# Altium footprint library MY DB LIBRARY.PcbLib: 20 footprints (part 1 of 2)
Each footprint in its own frame and in the unit in brackets; x right, y up, seen from the top. Pads: shape width x height; smd on the part's side, far side on the other; paste and mask are expansions set on the pad; w line width, h text height; cw(c..) or ccw(c..) is an arc to the next point about the centre after c.
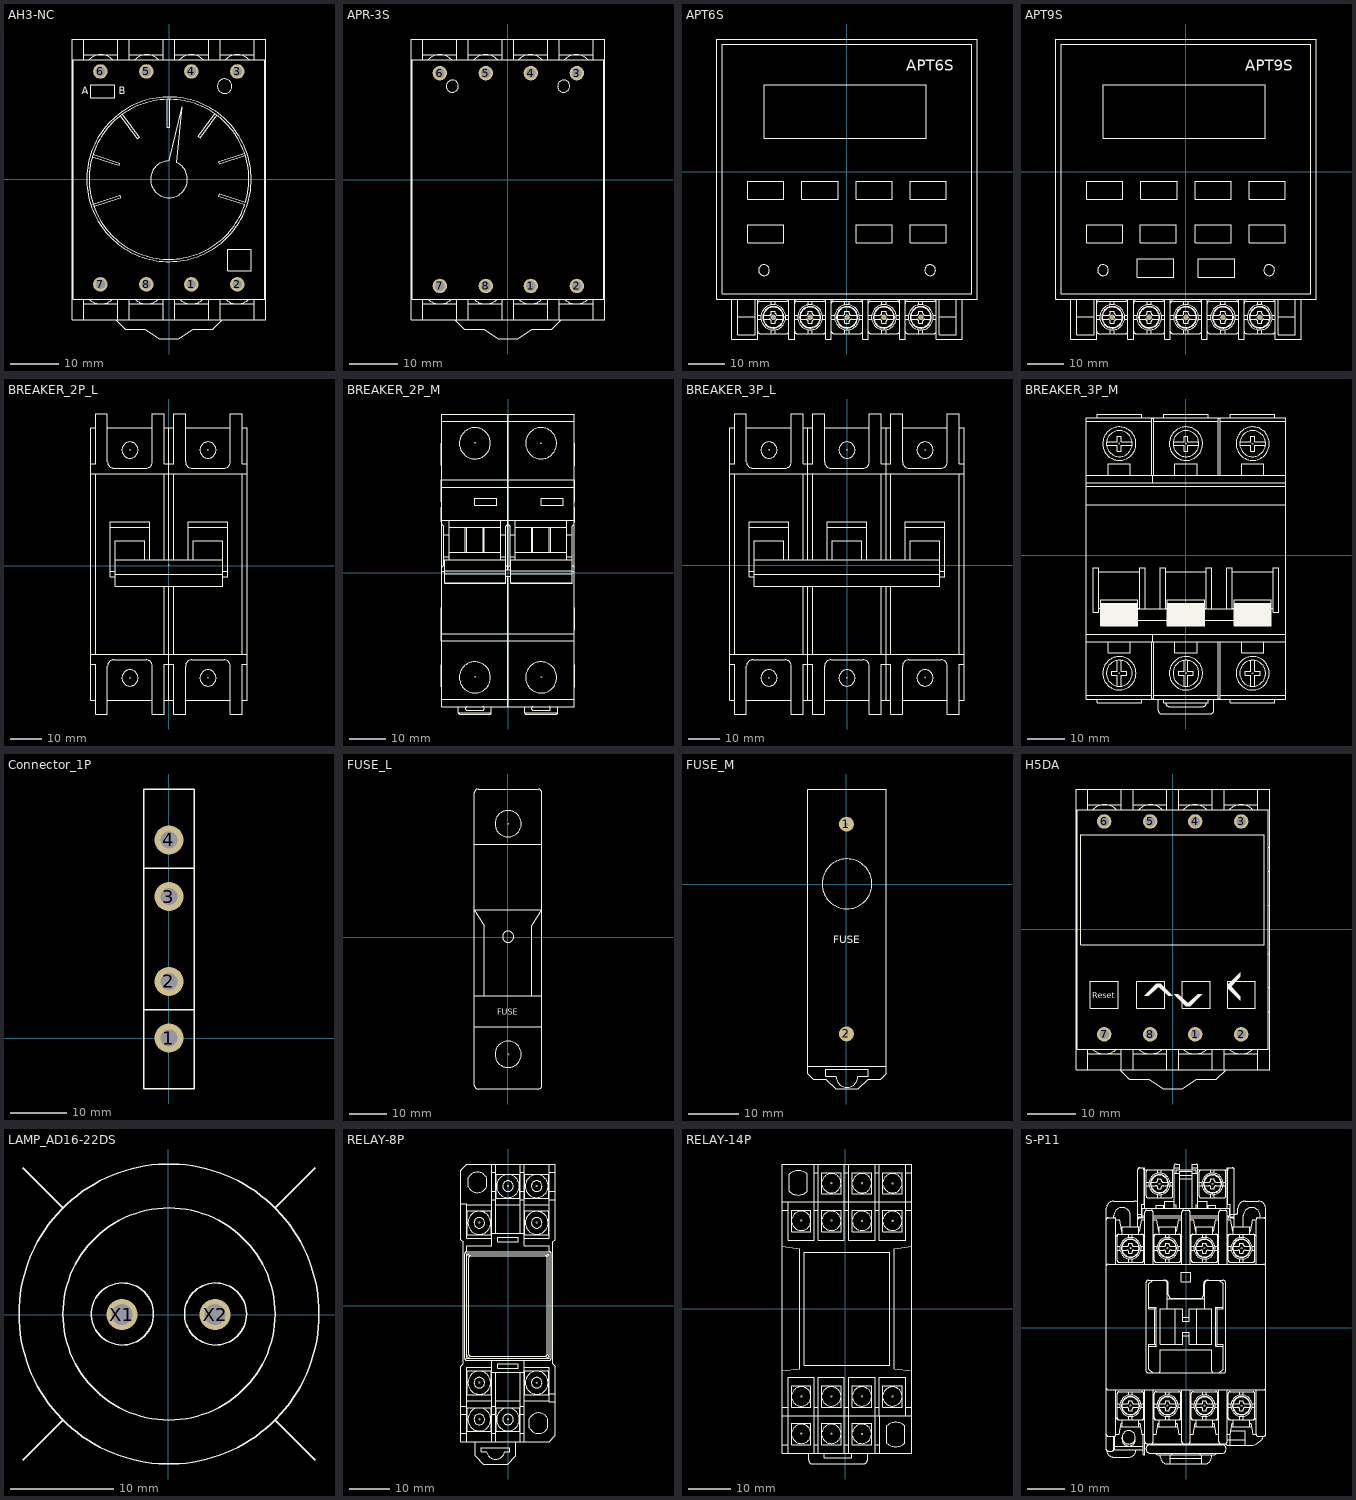
[diagram p0: the footprints below, top view; thin cyan lines are the x and y axes]

## AH3-NC [mm]
height 87
pads (8):
  round 3 hole 2: 1(4.627,-21.742) 2(14.127,-21.742) 3(14.127,22.258) 4(4.627,22.258) 5(-4.673,22.258) 6(-14.173,22.258) 7(-14.173,-21.742) 8(-4.673,-21.742)
Top Overlay:
  circle w0.127: c11.5,19.217 r1.5
  circle w0.127: c0,-0.033 r17
  lines w0.127: -20,-17.033 -19.75,-17.033 ; -20,-12.033 -19.75,-12.033 ; -20,-5.033 -19.75,-5.033 ; -20,4.967 -19.75,4.967 ; -20,11.967 -19.75,11.967 ; -20,16.967 -19.75,16.967 ; -17.6,-29.033 -17.6,-24.783 ; -17.6,-25.783 -10.6,-25.783 ; -17.6,24.717 -17.6,28.967 ; -17.6,25.717 -10.6,25.717 ; -16.549,-24.783 ccw(c-14.1,-22.283) -11.651,-24.783 ; -16.549,24.717 cw(c-14.1,22.217) -11.651,24.717 ; -15.845,4.638 -10.299,2.836 -10.144,3.311 -15.696,5.115 ; -15.71,-5.137 -10.19,-3.343 -10.035,-3.819 -15.549,-5.61 ; -11,-29.033 -9,-31.033 -5,-31.033 -2,-33.033 2,-33.033 5,-31.033 9,-31.033 11,-29.033 ; -10.6,-29.033 -10.6,-24.783 ; -10.6,24.717 -10.6,28.967 ; -10.029,13.093 -6.6,8.374 -6.196,8.668 -9.627,13.391 ; -8.2,-29.033 -8.2,-24.783 ; -8.2,-25.783 -1.2,-25.783 ; -8.2,24.717 -8.2,28.967 ; -8.2,25.717 -1.2,25.717 ; -7.049,-24.783 ccw(c-4.6,-22.283) -2.151,-24.783 ; -7.049,24.717 cw(c-4.6,22.217) -2.151,24.717 ; -1.2,-29.033 -1.2,-24.783 ; -1.2,24.717 -1.2,28.967 ; -0.353,16.482 -0.353,10.681 0.147,10.681 0.147,16.485 ; 1.2,-29.033 1.2,-24.783 ; 1.2,-25.783 8.2,-25.783 ; 1.2,24.717 1.2,28.967 ; 1.2,25.717 8.2,25.717 ; 2.151,-24.783 ccw(c4.6,-22.283) 7.049,-24.783 ; 2.151,24.717 cw(c4.6,22.217) 7.049,24.717 ; 8.2,-29.033 8.2,-24.783 ; 8.2,24.717 8.2,28.967 ; 9.436,13.526 6.058,8.876 6.462,8.582 9.842,13.234 ; 10.6,-29.033 10.6,-24.783 ; 10.6,-25.783 17.6,-25.783 ; 10.6,24.717 10.6,28.967 ; 10.6,25.717 17.6,25.717 ; 11.651,-24.783 ccw(c14.1,-22.283) 16.549,-24.783 ; 11.651,24.717 cw(c14.1,22.217) 16.549,24.717 ; 15.598,5.406 10.182,3.647 10.337,3.171 15.755,4.932 ; 17.6,-29.033 17.6,-24.783 ; 17.6,24.717 17.6,28.967 ; 19.75,-17.033 20,-17.033 ; 19.75,-12.033 20,-12.033 ; 19.75,-5.033 20,-5.033 ; 19.75,4.967 20,4.967 ; 19.75,11.967 20,11.967 ; 19.75,16.967 20,16.967 ; -20,-29.033 -20,28.967 20,28.967 20,-29.033 -20,-29.033 ; -19.75,-24.783 -19.75,24.717 19.75,24.717 19.75,-24.783 -19.75,-24.783 ; -16.16,16.815 -11.176,16.815 -11.176,19.495 -16.16,19.495 -16.16,16.815 ; 0,3.767 ccw(c0,-0.033) 1.622,3.404 2.768,14.968 0,3.767 ; 10.291,-3.483 10.446,-3.008 15.829,-4.757 ccw(c0,-0.033) 15.679,-5.234 10.291,-3.483 ; 12.19,-18.952 16.99,-18.952 16.99,-14.452 12.19,-14.452 12.19,-18.952
  text "A" at -18.059,17.501 h1.52
  text "B" at -10.363,17.501 h1.52

## APR-3S [mm]
height 78
pads (8):
  round 3 hole 2: 1(4.8,-22) 2(14.3,-22) 3(14.3,22) 4(4.8,22) 5(-4.5,22) 6(-14,22) 7(-14,-22) 8(-4.5,-22)
Top Overlay:
  circle w0.127: c11.576,19.294 r1.25
  circle w0.127: c-11.424,19.294 r1.25
  lines w0.127: -19.924,-16.956 -19.674,-16.956 ; -19.924,-11.956 -19.674,-11.956 ; -19.924,-4.956 -19.674,-4.956 ; -19.924,5.044 -19.674,5.044 ; -19.924,12.044 -19.674,12.044 ; -19.924,17.044 -19.674,17.044 ; -17.524,-28.956 -17.524,-24.706 ; -17.524,-25.706 -10.524,-25.706 ; -17.524,24.794 -17.524,29.044 ; -17.524,25.794 -10.524,25.794 ; -16.473,-24.706 ccw(c-14.024,-22.206) -11.574,-24.706 ; -16.473,24.794 cw(c-14.024,22.294) -11.574,24.794 ; -10.924,-28.956 -8.924,-30.956 -4.924,-30.956 -1.924,-32.956 2.076,-32.956 5.076,-30.956 9.076,-30.956 11.076,-28.956 ; -10.524,-28.956 -10.524,-24.706 ; -10.524,24.794 -10.524,29.044 ; -8.124,-28.956 -8.124,-24.706 ; -8.124,-25.706 -1.124,-25.706 ; -8.124,24.794 -8.124,29.044 ; -8.124,25.794 -1.124,25.794 ; -6.973,-24.706 ccw(c-4.524,-22.206) -2.074,-24.706 ; -6.973,24.794 cw(c-4.524,22.294) -2.074,24.794 ; -1.124,-28.956 -1.124,-24.706 ; -1.124,24.794 -1.124,29.044 ; 1.276,-28.956 1.276,-24.706 ; 1.276,-25.706 8.276,-25.706 ; 1.276,24.794 1.276,29.044 ; 1.276,25.794 8.276,25.794 ; 2.227,-24.706 ccw(c4.676,-22.206) 7.126,-24.706 ; 2.227,24.794 cw(c4.676,22.294) 7.126,24.794 ; 8.276,-28.956 8.276,-24.706 ; 8.276,24.794 8.276,29.044 ; 10.676,-28.956 10.676,-24.706 ; 10.676,-25.706 17.676,-25.706 ; 10.676,24.794 10.676,29.044 ; 10.676,25.794 17.676,25.794 ; 11.727,-24.706 ccw(c14.176,-22.206) 16.626,-24.706 ; 11.727,24.794 cw(c14.176,22.294) 16.626,24.794 ; 17.676,-28.956 17.676,-24.706 ; 17.676,24.794 17.676,29.044 ; 19.826,-16.956 20.076,-16.956 ; 19.826,-11.956 20.076,-11.956 ; 19.826,-4.956 20.076,-4.956 ; 19.826,5.044 20.076,5.044 ; 19.826,12.044 20.076,12.044 ; 19.826,17.044 20.076,17.044 ; -19.924,-28.956 -19.924,29.044 20.076,29.044 20.076,-28.956 -19.924,-28.956 ; -19.674,-24.706 -19.674,24.794 19.826,24.794 19.826,-24.706 -19.674,-24.706

## APT6S [mil]
height 2165.35
pads (5):
  round 60 hole 30: 0(-799.21,-1586.61) 1(-397.64,-1586.61) 2(4,-1586.61) L(406,-1586.61) N(808,-1586.61)
Top Overlay:
  drawing of 246 lines, arcs and shapes, not listed
  text "APT6S" at 650,1099 h118.11

## APT9S [mil]
height 2165.35
pads (5):
  round 60 hole 30: 0(-799.21,-1586.61) 1(-397.64,-1586.61) 2(4,-1586.61) L(406,-1586.61) N(808,-1586.61)
Top Overlay:
  drawing of 258 lines, arcs and shapes, not listed
  text "APT9S" at 650,1099 h118.11

## BREAKER_2P_L [mm]
height 75
pads (4):
  round 0.5 hole 0.3: 1(-12.344,36.678) 2(-12.344,-35.535) 3(12.344,36.652) 4(12.37,-35.433)
Top Overlay:
  circle w0.064: c-0.025,0.238 r0.032
  circle w0.127: c-12.327,-35.525 r2.57
  circle w0.127: c12.387,-35.525 r2.57
  circle w0.127: c-12.327,36.621 r2.57
  circle w0.127: c12.387,36.621 r2.57
  lines w0.127: -24.684,-41.614 -24.684,0.548 ; -24.684,-31.252 -23.201,-31.252 -23.201,-46.952 -19.447,-46.952 -19.447,-31.778 cw(c-17.47,-31.778) -17.47,-29.8 -7.226,-29.8 cw(c-7.226,-31.778) -5.249,-31.778 -5.249,-46.952 -1.453,-46.952 -1.453,-31.252 1.513,-31.252 1.513,-46.952 5.267,-46.952 5.267,-31.778 cw(c7.244,-31.778) 7.244,-29.8 17.488,-29.8 cw(c17.488,-31.778) 19.465,-31.778 19.465,-46.952 23.261,-46.952 23.261,-31.252 24.744,-31.252 ; -24.684,-27.952 24.744,-27.952 ; -24.684,29.048 24.744,29.048 ; -24.684,32.348 -23.201,32.348 -23.201,48.048 -19.565,48.048 ; -23.201,-42.602 -24.684,-42.602 ; -23.201,-27.952 -23.201,0.548 -23.201,29.048 ; -23.201,43.699 -24.684,43.699 -24.684,0.548 ; -19.447,-42.602 -18.705,-42.602 -5.991,-42.602 -5.249,-42.602 ; -19.447,43.699 -18.705,43.699 -5.991,43.699 -5.249,43.699 ; -19.447,48.048 -19.447,32.874 ccw(c-17.47,32.874) -17.47,30.897 -7.226,30.897 ccw(c-7.226,32.874) -5.249,32.874 -5.249,48.048 -1.453,48.048 -1.453,32.348 1.513,32.348 1.513,48.048 5.149,48.048 ; -18.604,-1.775 -17.022,-1.775 ; -18.604,12.164 -6.05,12.164 ; -17.022,-3.505 -18.604,-3.505 -18.604,13.894 -6.05,13.894 -6.05,1.932 ; -17.022,-2.659 17.083,-2.659 ; -17.022,1.932 7.691,1.932 ; -7.631,1.932 -7.631,7.863 -17.022,7.863 -17.022,-6.471 7.691,-6.471 17.083,-6.471 17.083,7.863 7.691,7.863 7.691,1.932 ; -1.453,-27.952 -1.453,-6.471 ; -1.453,1.932 -1.453,29.048 ; -1.384,-42.602 0.03,-42.602 ; -1.384,43.699 0.03,43.699 ; 0.03,42.71 0.03,1.932 ; 1.513,-42.602 0.03,-42.602 ; 1.513,-27.952 1.513,-6.471 ; 1.513,1.932 1.513,29.048 ; 1.513,43.699 0.03,43.699 ; 5.267,-42.602 6.009,-42.602 18.723,-42.602 19.465,-42.602 ; 5.267,43.699 6.009,43.699 18.723,43.699 19.465,43.699 ; 5.267,48.048 5.267,32.874 ccw(c7.244,32.874) 7.244,30.897 17.488,30.897 ccw(c17.488,32.874) 19.465,32.874 19.465,48.048 23.261,48.048 23.261,32.348 24.744,32.348 ; 6.11,1.932 6.11,13.894 18.664,13.894 18.664,-3.505 17.083,-3.505 ; 6.11,12.164 18.664,12.164 ; 17.083,-1.775 18.664,-1.775 ; 17.083,1.932 7.691,1.932 ; 23.261,-27.952 23.261,0.548 23.261,29.048 ; 23.329,-42.602 24.744,-42.602 24.744,0.548 ; 23.329,43.699 24.744,43.699 24.744,0.548 ; 24.744,-41.614 24.744,0.548 ; 24.744,42.71 24.744,0.548 ; -24.684,-42.602 -24.684,0.548 ; -24.684,-42.602 -24.684,0.548 ; -24.684,0.548 -24.684,42.71 -24.684,0.548 ; 0.03,-42.602 0.03,-6.471 ; 0.03,-6.471 0.03,-41.614 0.03,-6.471 ; 0.03,1.932 0.03,43.699 ; 0.03,1.932 0.03,43.699

## BREAKER_2P_M [mm]
height 75
pads (4):
  round 0.5 hole 0.3: 1(-9.068,35.611) 2(-9.042,-28.346) 3(8.915,35.433) 4(9.042,-28.524)
Top Overlay:
  drawing of 151 lines, arcs and shapes, not listed

## BREAKER_3P_L [mm]
height 75
pads (6):
  round 0.5 hole 0.3: 1(-24.714,36.627) 2(-24.74,-35.636) 3(-0.025,36.601) 4(-0.025,-35.585) 5(24.74,36.551) 6(24.714,-35.484)
Top Overlay:
  drawing of 164 lines, arcs and shapes, not listed

## BREAKER_3P_M [mm]
height 75
pads (6):
  round 0.5 hole 0.3: 1(-17.907,30.099) 2(-17.907,-31.902) 3(0.102,30.124) 4(0.102,-31.928) 5(18.085,30.074) 6(18.085,-31.928)
Top Overlay:
  drawing of 361 lines, arcs and shapes, not listed

## Connector_1P [mm] "Tterminal block connector"
height 46
pads (4):
  round 5.1 hole 3: 1(0,0) 2(0,10) 3(0,25) 4(0,35)
Top Overlay:
  lines w0.254: -4.5,5 4.5,5 ; -4.5,30 4.5,30 ; -4.5,-9 4.5,-9 4.5,44 -4.5,44 -4.5,-9

## FUSE_L [mm]
height 62
pads (2):
  round 0.5 hole 0.3: 1(0.127,30.201) 2(0.152,-31.267)
Top Overlay:
  circle w0.127: c0.102,0.095 r1.5
  circle w0.127: c0.102,-31.267 r3.5
  circle w0.127: c0.102,30.233 r3.5
  lines w0.127: -8.973,24.812 9.075,24.812 ; -8.89,-23.973 9.075,-23.973 ; -8.89,-15.683 9.075,-15.683 ; -6.254,-15.683 -6.254,3.058 -8.973,7.289 9.075,7.289 6.364,3.058 6.364,-15.683 ; -8.898,-39.517 ccw(c-7.898,-39.517) -7.898,-40.517 8.102,-40.517 ccw(c8.102,-39.517) 9.102,-39.517 9.102,38.483 ccw(c8.102,38.483) 8.102,39.483 -7.898,39.483 ccw(c-7.898,38.483) -8.898,38.483 -8.898,-39.517
  text "FUSE" at -2.743,-20.726 h1.52

## FUSE_M [mm]
height 43.5
pads (2):
  round 3 hole 0.762: 1(0,12) 2(0,-30)
Top Overlay:
  circle w0.127: c0.103,0.051 r5
  lines w0.127: -7.747,-36.449 7.953,-36.449 ; -7.747,-36.449 -7.747,19.051 7.953,19.051 7.953,-36.449 ; -7.747,-36.449 -7.747,-37.949 -6.647,-39.049 -4.147,-39.049 -2.147,-41.049 2.353,-41.049 4.353,-39.049 6.853,-39.049 7.953,-37.949 7.953,-36.449 ; -4.147,-38.486 -2.102,-38.486 ccw(c0.103,-38.486) 2.308,-38.486 4.353,-38.486 4.353,-37.109 -4.147,-37.109 -4.147,-38.486
  text "FUSE" at -2.642,-11.862 h1.52

## H5DA [mm] "Counter/Timer"
height 91
pads (8):
  round 3 hole 2: 1(4.627,-21.742) 2(14.127,-21.742) 3(14.127,22.258) 4(4.627,22.258) 5(-4.673,22.258) 6(-14.173,22.258) 7(-14.173,-21.742) 8(-4.673,-21.742)
Top Overlay:
  lines w0.127: -20,-17.033 -19.75,-17.033 ; -20,-12.033 -19.75,-12.033 ; -20,-5.033 -19.75,-5.033 ; -20,4.967 -19.75,4.967 ; -20,11.967 -19.75,11.967 ; -20,16.967 -19.75,16.967 ; -17.6,-29.033 -17.6,-24.783 ; -17.6,-25.783 -10.6,-25.783 ; -17.6,24.717 -17.6,28.967 ; -17.6,25.717 -10.6,25.717 ; -16.549,-24.783 ccw(c-14.1,-22.283) -11.651,-24.783 ; -16.549,24.717 cw(c-14.1,22.217) -11.651,24.717 ; -11,-29.033 -9,-31.033 -5,-31.033 -2,-33.033 2,-33.033 5,-31.033 9,-31.033 11,-29.033 ; -10.6,-29.033 -10.6,-24.783 ; -10.6,24.717 -10.6,28.967 ; -8.2,-29.033 -8.2,-24.783 ; -8.2,-25.783 -1.2,-25.783 ; -8.2,24.717 -8.2,28.967 ; -8.2,25.717 -1.2,25.717 ; -7.049,-24.783 ccw(c-4.6,-22.283) -2.151,-24.783 ; -7.049,24.717 cw(c-4.6,22.217) -2.151,24.717 ; -1.2,-29.033 -1.2,-24.783 ; -1.2,24.717 -1.2,28.967 ; 1.2,-29.033 1.2,-24.783 ; 1.2,-25.783 8.2,-25.783 ; 1.2,24.717 1.2,28.967 ; 1.2,25.717 8.2,25.717 ; 2.151,-24.783 ccw(c4.6,-22.283) 7.049,-24.783 ; 2.151,24.717 cw(c4.6,22.217) 7.049,24.717 ; 8.2,-29.033 8.2,-24.783 ; 8.2,24.717 8.2,28.967 ; 10.6,-29.033 10.6,-24.783 ; 10.6,-25.783 17.6,-25.783 ; 10.6,24.717 10.6,28.967 ; 10.6,25.717 17.6,25.717 ; 11.651,-24.783 ccw(c14.1,-22.283) 16.549,-24.783 ; 11.651,24.717 cw(c14.1,22.217) 16.549,24.717 ; 17.6,-29.033 17.6,-24.783 ; 17.6,24.717 17.6,28.967 ; 19.75,-17.033 20,-17.033 ; 19.75,-12.033 20,-12.033 ; 19.75,-5.033 20,-5.033 ; 19.75,4.967 20,4.967 ; 19.75,11.967 20,11.967 ; 19.75,16.967 20,16.967 ; -20,-29.033 -20,28.967 20,28.967 20,-29.033 -20,-29.033 ; -19.75,-24.783 -19.75,24.717 19.75,24.717 19.75,-24.783 -19.75,-24.783 ; -18.999,-3.226 -18.999,19.533 18.898,19.533 18.898,-3.226 -18.999,-3.226 ; -17.02,-16.361 -17.02,-10.77 -11.252,-10.77 -11.252,-16.361 -17.02,-16.361 ; -7.419,-16.361 -1.651,-16.361 -1.651,-10.77 -7.419,-10.77 -7.419,-16.361 ; 1.928,-16.336 1.928,-10.744 7.696,-10.744 7.696,-16.336 1.928,-16.336 ; 11.326,-16.361 11.326,-10.77 17.094,-10.77 17.094,-16.361 11.326,-16.361
  text "^" at 18.466,-15.9 h7
  text "^" at 7.214,-9.042 h7
  text "^" at -6.883,-18.288 h7
  text "Reset" at -16.688,-14.249 h1.2

## LAMP_AD16-22DS [mm]
height 51
pads (2):
  round 3 hole 2: X1(-4.5,0) X2(4.5,0)
Top Overlay:
  circle w0.127: c0.051,0.051 r14.5
  circle w0.127: c-4.449,0.051 r3
  circle w0.127: c4.551,0.051 r3
  circle w0.127: c0.051,0.051 r10.25
  lines w0.127: -14.091,-14.091 -10.202,-10.202 ; -14.091,14.193 -10.202,10.304 ; 10.304,-10.202 14.193,-14.091 ; 10.304,10.304 14.193,14.193

## RELAY-8P [mm]
height 66
pads (8):
  round 0.5 hole 0.3: 1(6.96,29.312) 4(-0.051,29.337) 5(6.96,20.32) 8(-7.112,20.345) 9(6.96,-18.898) 12(-7.112,-18.847) 13(-0.076,-27.838) 14(-7.087,-27.838)
Top Overlay:
  drawing of 166 lines, arcs and shapes, not listed

## RELAY-14P [mm]
height 66
pads (14):
  round 0.5 hole 0.3: 1(11.049,29.261) 2(3.886,29.312) 3(-3.302,29.312) 4(-10.338,-29.286) 5(11.074,20.523) 6(3.861,20.498) 7(-3.226,20.599) 8(-10.338,20.574) 9(10.998,-20.549) 10(3.886,-20.549) 11(-3.277,-20.574) 12(-10.312,-20.549) 13(3.912,-29.337) 14(-3.251,-29.312)
Top Overlay:
  lines w0.127: -14.724,-31.885 -13.324,-31.885 ; -14.724,-25.085 7.976,-25.085 7.976,-16.085 14.076,-16.085 14.076,-25.085 ; -14.724,-23.085 -13.324,-23.085 ; -14.724,-14.585 -10.624,-14.085 -10.624,14.015 -14.724,14.515 ; -14.724,23.015 -13.324,23.015 ; -14.724,25.015 15.476,25.015 ; -13.324,-33.885 -13.324,-16.085 -7.324,-16.085 -7.324,-33.885 ; -13.324,25.015 -13.324,16.015 -7.324,16.015 -7.324,33.815 ; -12.517,-29.839 ccw(c-10.324,-29.339) -12.517,-28.839 ; -12.517,-21.085 ccw(c-10.324,-20.585) -12.517,-20.085 ; -12.517,20.015 ccw(c-10.324,20.515) -12.517,21.015 ; -8.624,-33.885 -8.624,-35.385 ccw(c-7.624,-35.385) -7.624,-36.386 4.176,-36.386 ccw(c4.176,-35.385) 5.176,-35.385 5.176,-33.885 ; -7.324,-31.885 -6.324,-31.885 ; -7.324,-23.085 -6.324,-23.085 ; -7.324,23.015 -6.324,23.015 ; -7.324,31.815 -6.324,31.815 ; -6.324,-33.885 -6.324,-16.085 -0.224,-16.085 -0.224,-33.885 ; -6.324,33.815 -6.324,16.015 -0.224,16.015 -0.224,33.815 ; -5.477,29.768 cw(c-3.274,29.315) -5.456,28.768 ; -5.467,-29.839 ccw(c-3.274,-29.339) -5.467,-28.839 ; -5.467,-21.085 ccw(c-3.274,-20.585) -5.467,-20.085 ; -5.467,20.015 ccw(c-3.274,20.515) -5.467,21.015 ; -4.924,-33.885 -4.924,-34.885 1.476,-34.885 1.476,-33.885 ; -0.224,-31.885 0.776,-31.885 ; -0.224,-23.085 0.776,-23.085 ; -0.224,23.015 0.776,23.015 ; -0.224,31.815 0.776,31.815 ; 0.776,-33.885 0.776,-16.085 6.976,-16.085 6.976,-33.885 ; 0.776,33.815 0.776,16.015 6.976,16.015 6.976,33.815 ; 1.673,29.768 cw(c3.876,29.315) 1.694,28.768 ; 1.683,-29.839 ccw(c3.876,-29.339) 1.683,-28.839 ; 1.683,-21.085 ccw(c3.876,-20.585) 1.683,-20.085 ; 1.683,20.015 ccw(c3.876,20.515) 1.683,21.015 ; 6.976,-31.885 8.076,-31.885 ; 6.976,-23.085 7.976,-23.085 ; 6.976,23.015 7.976,23.015 ; 6.976,31.815 7.976,31.815 ; 7.976,33.815 7.976,16.015 14.076,16.015 14.076,33.815 ; 8.076,-33.885 8.076,-25.085 15.476,-25.085 ; 8.823,29.768 cw(c11.026,29.315) 8.844,28.768 ; 8.833,-21.085 ccw(c11.026,-20.585) 8.833,-20.085 ; 8.833,20.015 ccw(c11.026,20.515) 8.833,21.015 ; 14.076,-23.085 15.476,-23.085 ; 14.076,23.015 15.476,23.015 ; 14.076,31.815 15.476,31.815 ; 15.476,-14.585 11.376,-14.085 11.376,14.015 15.476,14.515 ; -14.724,-33.885 15.476,-33.885 15.476,33.815 -14.724,33.815 -14.724,-33.885 ; -13.124,27.415 ccw(c-11.024,29.557) -8.924,27.415 -8.924,31.415 ccw(c-11.024,29.272) -13.124,31.415 -13.124,27.415 ; -12.574,-31.885 -8.074,-31.885 -8.074,-26.885 -12.574,-26.885 -12.574,-31.885 ; -12.574,-23.085 -8.074,-23.085 -8.074,-18.085 -12.574,-18.085 -12.574,-23.085 ; -12.574,18.015 -8.074,18.015 -8.074,23.015 -12.574,23.015 -12.574,18.015 ; -9.624,-13.285 -9.624,13.215 10.376,13.215 10.376,-13.285 -9.624,-13.285 ; -5.524,-31.885 -1.024,-31.885 -1.024,-26.885 -5.524,-26.885 -5.524,-31.885 ; -5.524,-23.085 -1.024,-23.085 -1.024,-18.085 -5.524,-18.085 -5.524,-23.085 ; -5.524,18.015 -1.024,18.015 -1.024,23.015 -5.524,23.015 -5.524,18.015 ; -5.524,26.815 -1.024,26.815 -1.024,31.815 -5.524,31.815 -5.524,26.815 ; 1.626,-31.885 6.126,-31.885 6.126,-26.885 1.626,-26.885 1.626,-31.885 ; 1.626,-23.085 6.126,-23.085 6.126,-18.085 1.626,-18.085 1.626,-23.085 ; 1.626,18.015 6.126,18.015 6.126,23.015 1.626,23.015 1.626,18.015 ; 1.626,26.815 6.126,26.815 6.126,31.815 1.626,31.815 1.626,26.815 ; 8.776,-23.085 13.276,-23.085 13.276,-18.085 8.776,-18.085 8.776,-23.085 ; 8.776,18.015 13.276,18.015 13.276,23.015 8.776,23.015 8.776,18.015 ; 8.776,26.815 13.276,26.815 13.276,31.815 8.776,31.815 8.776,26.815 ; 9.676,-31.485 ccw(c11.776,-29.343) 13.876,-31.485 13.876,-27.485 ccw(c11.776,-29.628) 9.676,-27.485 9.676,-31.485

## S-P11 [mm]
height 83
pads (10):
  round 0.5 hole 0.3: 1(-15.037,21.438) 2(-15.062,-21.082) 3(-5.055,21.438) 4(-5.055,-21.082) 5(4.928,21.412) 6(4.953,-21.082) 13(14.961,21.412) 14(14.961,-21.107) A1(7.112,38.811) A2(-7.188,38.837)
Top Overlay:
  drawing of 729 lines, arcs and shapes, not listed